# EAGLE library part TWE-LITE (library 12_module)
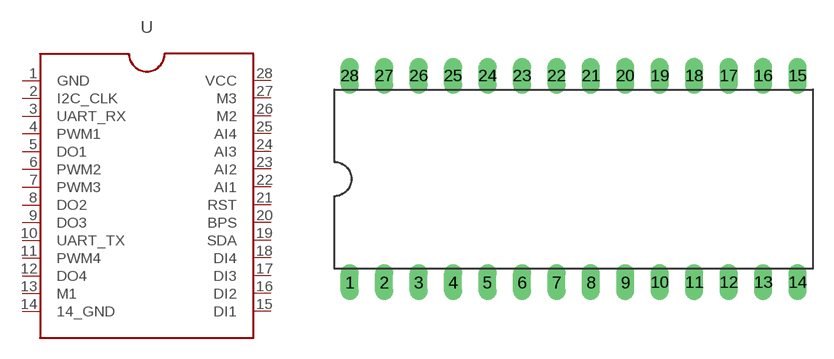
[diagram p0: symbol with the pads of DIP28; footprint DIP28]

Designator prefix -

## TWE-LITE  [DIP28]
1  GND  pas
2  I2C_CLK  pas
3  UART_RX  pas
4  PWM1  pas
5  DO1  pas
6  PWM2  pas
7  PWM3  pas
8  DO2  pas
9  DO3  pas
10  UART_TX  pas
11  PWM4  pas
12  DO4  pas
13  M1  pas
14  14_GND  pas
15  DI1  pas
16  DI2  pas
17  DI3  pas
18  DI4  pas
19  SDA  pas
20  BPS  pas
21  RST  pas
22  AI1  pas
23  AI2  pas
24  AI3  pas
25  AI4  pas
26  M2  pas
27  M3  pas
28  VCC  pas

## Footprint DIP28 (pad centres in mm)
drill 0.813 long: 1 -15.24,-7.62; 2 -12.7,-7.62; 3 -10.16,-7.62; 4 -7.62,-7.62; 5 -5.08,-7.62; 6 -2.54,-7.62; 7 0,-7.62; 8 2.54,-7.62; 9 5.08,-7.62; 10 7.62,-7.62; 11 10.16,-7.62; 12 12.7,-7.62; 13 15.24,-7.62; 14 17.78,-7.62; 15 17.78,7.62; 16 15.24,7.62; 17 12.7,7.62; 18 10.16,7.62; 19 7.62,7.62; 20 5.08,7.62; 21 2.54,7.62; 22 0,7.62; 23 -2.54,7.62; 24 -5.08,7.62; 25 -7.62,7.62; 26 -10.16,7.62; 27 -12.7,7.62; 28 -15.24,7.62